# EAGLE library part CY7C1049CV33 (library memory-sram)
4-Mbit (512K x 8) Static RAM Source: CYPRESS cy7c1049cv33_8.pdf
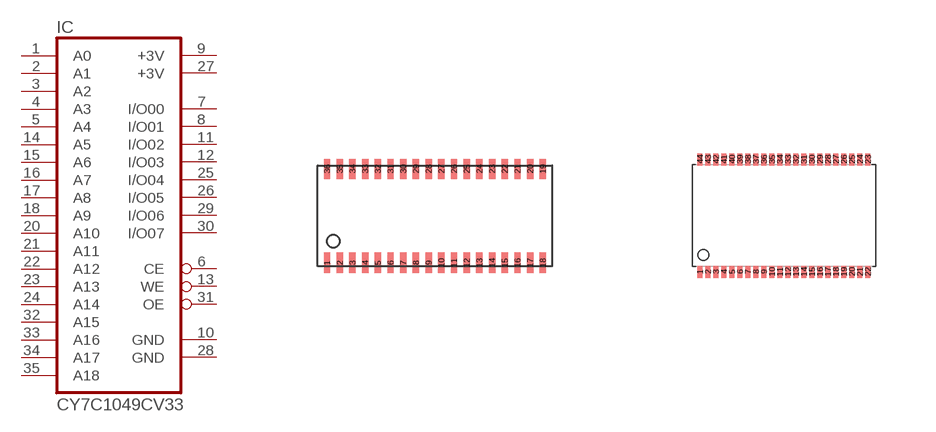
[diagram p1: symbol with the pads of SOJV36-400; footprints SOJV36-400, TSOPII-Z44]

Designator prefix IC

## CY7C1049CV33  [SOJV36-400]
1  A0  in
2  A1  in
3  A2  in
4  A3  in
5  A4  in
6  CE  in
7  I/O00
8  I/O01
9  +3V  pwr
10  GND  pwr
11  I/O02
12  I/O03
13  WE  in
14  A5  in
15  A6  in
16  A7  in
17  A8  in
18  A9  in
20  A10  in
21  A11  in
22  A12  in
23  A13  in
24  A14  in
25  I/O04
26  I/O05
27  +3V  pwr
28  GND  pwr
29  I/O06
30  I/O07
31  OE  in
32  A15  in
33  A16  in
34  A17  in
35  A18  in

## CY7C1049CV33T  [TSOPII-Z44]
3  A0  in
4  A1  in
5  A2  in
6  A3  in
7  A4  in
8  CE  in
9  I/O00
10  I/O01
11  +3V  pwr
12  GND  pwr
13  I/O02
14  I/O03
15  WE  in
16  A5  in
17  A6  in
18  A7  in
19  A8  in
20  A9  in
26  A10  in
27  A11  in
28  A12  in
29  A13  in
30  A14  in
31  I/O04
32  I/O05
33  +3V  pwr
34  GND  pwr
35  I/O06
36  I/O07
37  OE  in
38  A15  in
39  A16  in
40  A17  in
41  A18  in

## Footprint SOJV36-400 (pad centres in mm)
36-Lead (400-Mil) Molded SOJ V36 Source: CYPRESS cy7c1049cv33_8.pdf
smd 0.159 x 0.508: 1 -2.699,-1.175; 2 -2.381,-1.175; 3 -2.064,-1.175; 4 -1.746,-1.175; 5 -1.429,-1.175; 6 -1.111,-1.175; 7 -0.794,-1.175; 8 -0.476,-1.175; 9 -0.159,-1.175; 10 0.159,-1.175; 11 0.476,-1.175; 12 0.794,-1.175; 13 1.111,-1.175; 14 1.429,-1.175; 15 1.746,-1.175; 16 2.064,-1.175; 17 2.381,-1.175; 18 2.699,-1.175; 19 2.699,1.175; 20 2.381,1.175; 21 2.064,1.175; 22 1.746,1.175; 23 1.429,1.175; 24 1.111,1.175; 25 0.794,1.175; 26 0.476,1.175; 27 0.159,1.175; 28 -0.159,1.175; 29 -0.476,1.175; 30 -0.794,1.175; 31 -1.111,1.175; 32 -1.429,1.175; 33 -1.746,1.175; 34 -2.064,1.175; 35 -2.381,1.175; 36 -2.699,1.175

## Footprint TSOPII-Z44 (pad centres in mm)
44 PIN TSOP II Z44 Source: CYPRESS cy7c1049cv33_8.pdf
smd 0.125 x 0.3: 1 -2.1,-1.407; 2 -1.9,-1.407; 3 -1.7,-1.407; 4 -1.5,-1.407; 5 -1.3,-1.407; 6 -1.1,-1.407; 7 -0.9,-1.407; 8 -0.7,-1.407; 9 -0.5,-1.407; 10 -0.3,-1.407; 11 -0.1,-1.407; 12 0.1,-1.407; 13 0.3,-1.407; 14 0.5,-1.407; 15 0.7,-1.407; 16 0.9,-1.407; 17 1.1,-1.407; 18 1.3,-1.407; 19 1.5,-1.407; 20 1.7,-1.407; 21 1.9,-1.407; 22 2.1,-1.407; 23 2.1,1.407; 24 1.9,1.407; 25 1.7,1.407; 26 1.5,1.407; 27 1.3,1.407; 28 1.1,1.407; 29 0.9,1.407; 30 0.7,1.407; 31 0.5,1.407; 32 0.3,1.407; 33 0.1,1.407; 34 -0.1,1.407; 35 -0.3,1.407; 36 -0.5,1.407; 37 -0.7,1.407; 38 -0.9,1.407; 39 -1.1,1.407; 40 -1.3,1.407; 41 -1.5,1.407; 42 -1.7,1.407; 43 -1.9,1.407; 44 -2.1,1.407